# EAGLE library part MPXV5004DP (library MPXV5004DP)
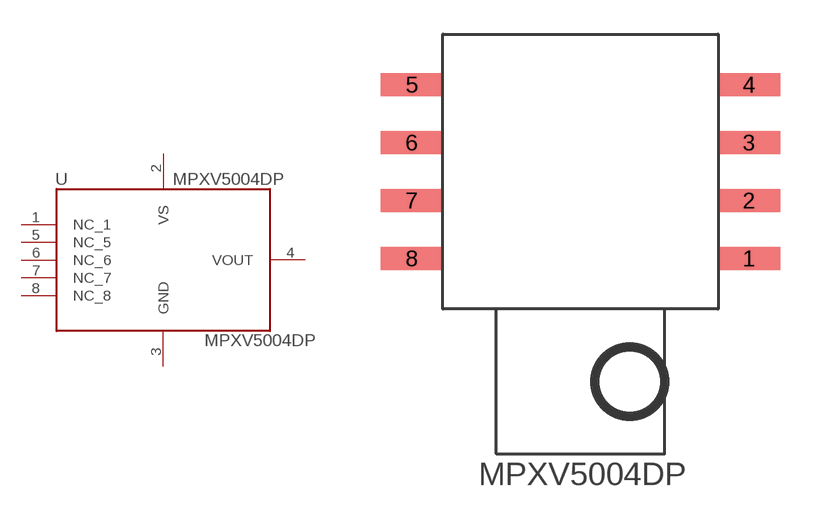
[diagram p0: symbol with the pads of 1351-01; footprint 1351-01]

Designator prefix -

## MPXV5004DP  [1351-01]
1  NC_1
2  VS
3  GND
4  VOUT
5  NC_5
6  NC_6
7  NC_7
8  NC_8

## Footprint 1351-01 (pad centres in mm)
smd 2.73 x 1.016: 1 7.39,-3.81; 2 7.39,-1.27; 3 7.39,1.27; 4 7.39,3.81; 5 -7.39,3.81; 6 -7.39,1.27; 7 -7.39,-1.27; 8 -7.39,-3.81